# Altium integrated library Linear Technology PMIC-Switching Reg LT1074-LT8705.IntLib: 2252 symbols (part 75 of 124)
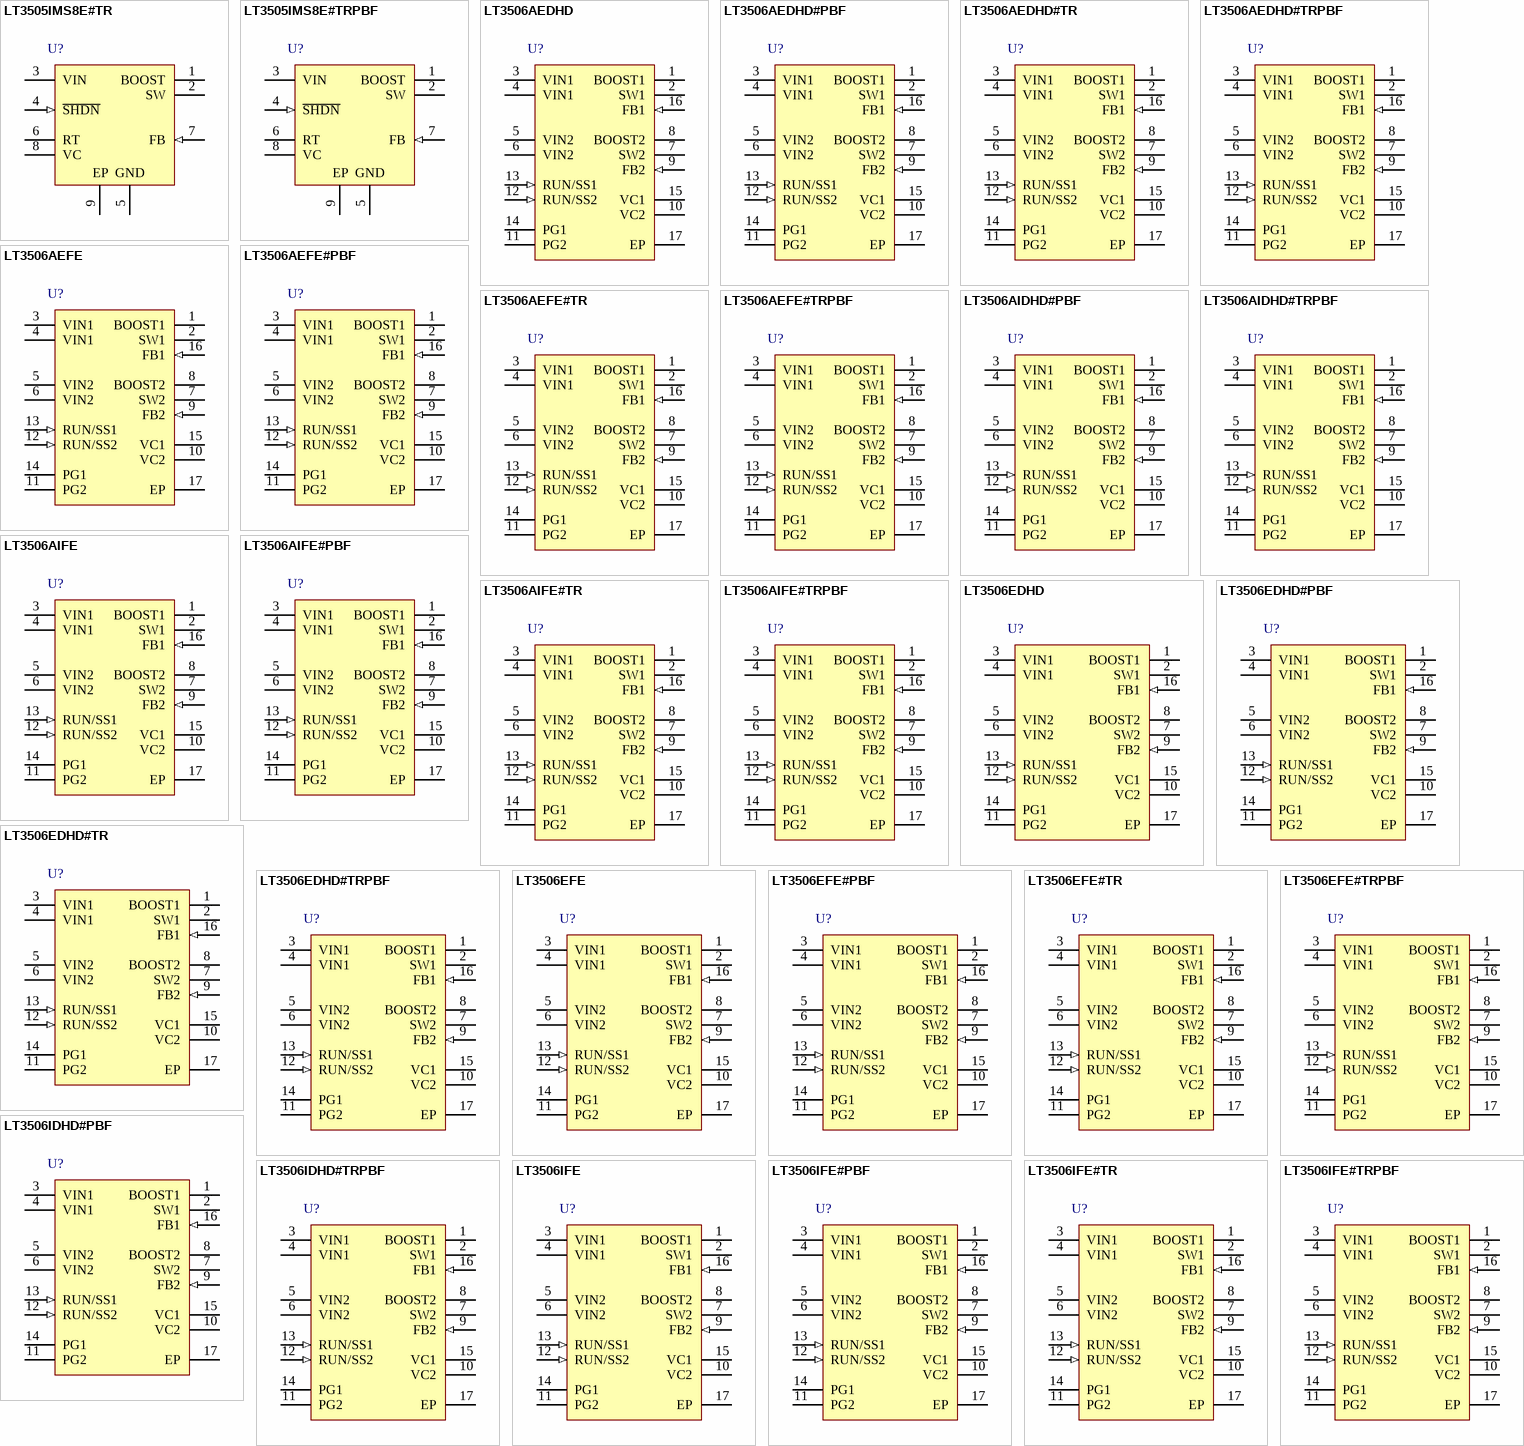
[diagram p145: symbols LT3505IMS8E#TR to LT3506IFE#TRPBF]

## LT3506EDHD#TRPBF
designator U?
Dual Monolithic 1.6 A Step-Down Switching Regulator, 16-pin SON (DHD-16), -40 to 85 degC, Pb-Free, Tape and Reel; Manufacturer: Linear Technology; PartNumber: LT3506EDHD#TRPBF; Number of Outputs: 2; PackageReference: DHD-16; PackageDescription: 16-Pin Plastic DFN, Body 5 x 4 mm, Pitch 0.5 mm; Supplier 1: Digi-Key; Supplier Part Number 1: LT3506EDHD#TRPBF-ND; RoHS: TRUE
footprint LT-DHD-16_V (SON, 16-Leads, Body 5x4mm, Pitch 0.5mm, Thermal Pad 4.34x2.44mm)
pins: 1 BOOST1 "The BOOST pins are used to provide drive voltages, higher than the input voltage, to the internal bipolar NPN power switches. Tie through a diode from VOUT or from VIN.", 2 SW1 (power) "The SW pins are the outputs of the internal power switches. Connect these pins to the inductors, catch diodes and boost capacitors.", 3 VIN1 (power) "The VIN1 pins supply current to the LT3506’s internal regulator and to the internal power switch connected to SW1. These pins must be locally bypassed.", 4 VIN1 (power) "The VIN1 pins supply current to the LT3506’s internal regulator and to the internal power switch connected to SW1. These pins must be locally bypassed.", 5 VIN2 (power) "The VIN2 pins supply current to the internal power switch connected to SW2 and must be locally bypassed. Connect these pins directly to VIN1 unless power for channel 2 is coming from a different source.", 6 VIN2 (power) "The VIN2 pins supply current to the internal power switch connected to SW2 and must be locally bypassed. Connect these pins directly to VIN1 unless power for channel 2 is coming from a different source.", 7 SW2 (power) "The SW pins are the outputs of the internal power switches. Connect these pins to the inductors, catch diodes and boost capacitors.", 8 BOOST2 "The BOOST pins are used to provide drive voltages, higher than the input voltage, to the internal bipolar NPN power switches. Tie through a diode from VOUT or from VIN.", 9 FB2 (in) "The LT3506 regulates each feedback pin to 800mV. Connect the feedback resistor divider taps to these pins.", 10 VC2 "The VC pins are the outputs of the internal error amps. The voltages on these pins control the peak switch currents. These pins are normally used to compensate the control loops, but can also be used to override the loops. (See Datasheet)", 11 PG2 (oc) "The Power Good pins are the open collector outputs of an internal comparator. PG remains low until the FB pin is within 10% of the fi nal regulation voltage. As well as indicating output regulation, the PG pins can be used (See Datasheet)", 12 RUN/SS2 (in) "The RUN/SS pins are used to shut down the individual switching regulators and the internal bias circuits. They also provide a soft-start function. To shut down either regulator, pull the RUN/SS pin to ground with an open (See Datasheet)", 13 RUN/SS1 (in) "The RUN/SS pins are used to shut down the individual switching regulators and the internal bias circuits. They also provide a soft-start function. To shut down either regulator, pull the RUN/SS pin to ground with an open (See Datasheet)", 14 PG1 (oc) "The Power Good pins are the open collector outputs of an internal comparator. PG remains low until the FB pin is within 10% of the fi nal regulation voltage. As well as indicating output regulation, the PG pins can be used (See Datasheet)", 15 VC1 "The VC pins are the outputs of the internal error amps. The voltages on these pins control the peak switch currents. These pins are normally used to compensate the control loops, but can also be used to override the loops. (See Datasheet)", 16 FB1 (in) "The LT3506 regulates each feedback pin to 800mV. Connect the feedback resistor divider taps to these pins.", 17 EP (power) "The Exposed Pad of the package provides both electrical contact to ground and good thermal contact to the printed circuit board. The Exposed Pad must be soldered to the circuit board for proper operation."

## LT3506EFE
designator U?
Dual Monolithic 1.6 A Step-Down Switching Regulator, 16-pin SOP (FE-16-EPV-BA), -40 to 85 degC; Manufacturer: Linear Technology; PartNumber: LT3506EFE; Number of Outputs: 2; PackageReference: FE-16; PackageDescription: 16-Pin Plastic TSSOP, Body 5 x 4.4 mm, Pitch 0.65 mm; RoHS: FALSE
footprint LT-FE-16-EPV-BA_N (SOP, 16-Leads, Body 5x4.4mm, Pitch 0.65mm, Thermal Pad 2.74x2.74mm, IPC Medium Density)
footprint LT-FE-16-EPV-BA_L (SOP, 16-Leads, Body 5x4.4mm, Pitch 0.65mm, Thermal Pad 2.74x2.74mm, IPC High Density)
footprint LT-FE-16-EPV-BA_M (SOP, 16-Leads, Body 5x4.4mm, Pitch 0.65mm, Thermal Pad 2.74x2.74mm, IPC Low Density)
pins: 1 BOOST1 "The BOOST pins are used to provide drive voltages, higher than the input voltage, to the internal bipolar NPN power switches. Tie through a diode from VOUT or from VIN.", 2 SW1 (power) "The SW pins are the outputs of the internal power switches. Connect these pins to the inductors, catch diodes and boost capacitors.", 3 VIN1 (power) "The VIN1 pins supply current to the LT3506’s internal regulator and to the internal power switch connected to SW1. These pins must be locally bypassed.", 4 VIN1 (power) "The VIN1 pins supply current to the LT3506’s internal regulator and to the internal power switch connected to SW1. These pins must be locally bypassed.", 5 VIN2 (power) "The VIN2 pins supply current to the internal power switch connected to SW2 and must be locally bypassed. Connect these pins directly to VIN1 unless power for channel 2 is coming from a different source.", 6 VIN2 (power) "The VIN2 pins supply current to the internal power switch connected to SW2 and must be locally bypassed. Connect these pins directly to VIN1 unless power for channel 2 is coming from a different source.", 7 SW2 (power) "The SW pins are the outputs of the internal power switches. Connect these pins to the inductors, catch diodes and boost capacitors.", 8 BOOST2 "The BOOST pins are used to provide drive voltages, higher than the input voltage, to the internal bipolar NPN power switches. Tie through a diode from VOUT or from VIN.", 9 FB2 (in) "The LT3506 regulates each feedback pin to 800mV. Connect the feedback resistor divider taps to these pins.", 10 VC2 "The VC pins are the outputs of the internal error amps. The voltages on these pins control the peak switch currents. These pins are normally used to compensate the control loops, but can also be used to override the loops. (See Datasheet)", 11 PG2 (oc) "The Power Good pins are the open collector outputs of an internal comparator. PG remains low until the FB pin is within 10% of the fi nal regulation voltage. As well as indicating output regulation, the PG pins can be used (See Datasheet)", 12 RUN/SS2 (in) "The RUN/SS pins are used to shut down the individual switching regulators and the internal bias circuits. They also provide a soft-start function. To shut down either regulator, pull the RUN/SS pin to ground with an open (See Datasheet)", 13 RUN/SS1 (in) "The RUN/SS pins are used to shut down the individual switching regulators and the internal bias circuits. They also provide a soft-start function. To shut down either regulator, pull the RUN/SS pin to ground with an open (See Datasheet)", 14 PG1 (oc) "The Power Good pins are the open collector outputs of an internal comparator. PG remains low until the FB pin is within 10% of the fi nal regulation voltage. As well as indicating output regulation, the PG pins can be used (See Datasheet)", 15 VC1 "The VC pins are the outputs of the internal error amps. The voltages on these pins control the peak switch currents. These pins are normally used to compensate the control loops, but can also be used to override the loops. (See Datasheet)", 16 FB1 (in) "The LT3506 regulates each feedback pin to 800mV. Connect the feedback resistor divider taps to these pins.", 17 EP (power) "The Exposed Pad of the package provides both electrical contact to ground and good thermal contact to the printed circuit board. The Exposed Pad must be soldered to the circuit board for proper operation."

## LT3506EFE#PBF
designator U?
Dual Monolithic 1.6 A Step-Down Switching Regulator, 16-pin SOP (FE-16-EPV-BA), -40 to 85 degC, Pb-Free; Manufacturer: Linear Technology; PartNumber: LT3506EFE#PBF; Number of Outputs: 2; PackageReference: FE-16; PackageDescription: 16-Pin Plastic TSSOP, Body 5 x 4.4 mm, Pitch 0.65 mm; Supplier 1: Digi-Key; Supplier Part Number 1: LT3506EFE#PBF-ND; RoHS: TRUE
footprint LT-FE-16-EPV-BA_N (SOP, 16-Leads, Body 5x4.4mm, Pitch 0.65mm, Thermal Pad 2.74x2.74mm, IPC Medium Density)
footprint LT-FE-16-EPV-BA_L (SOP, 16-Leads, Body 5x4.4mm, Pitch 0.65mm, Thermal Pad 2.74x2.74mm, IPC High Density)
footprint LT-FE-16-EPV-BA_M (SOP, 16-Leads, Body 5x4.4mm, Pitch 0.65mm, Thermal Pad 2.74x2.74mm, IPC Low Density)
pins: 1 BOOST1 "The BOOST pins are used to provide drive voltages, higher than the input voltage, to the internal bipolar NPN power switches. Tie through a diode from VOUT or from VIN.", 2 SW1 (power) "The SW pins are the outputs of the internal power switches. Connect these pins to the inductors, catch diodes and boost capacitors.", 3 VIN1 (power) "The VIN1 pins supply current to the LT3506’s internal regulator and to the internal power switch connected to SW1. These pins must be locally bypassed.", 4 VIN1 (power) "The VIN1 pins supply current to the LT3506’s internal regulator and to the internal power switch connected to SW1. These pins must be locally bypassed.", 5 VIN2 (power) "The VIN2 pins supply current to the internal power switch connected to SW2 and must be locally bypassed. Connect these pins directly to VIN1 unless power for channel 2 is coming from a different source.", 6 VIN2 (power) "The VIN2 pins supply current to the internal power switch connected to SW2 and must be locally bypassed. Connect these pins directly to VIN1 unless power for channel 2 is coming from a different source.", 7 SW2 (power) "The SW pins are the outputs of the internal power switches. Connect these pins to the inductors, catch diodes and boost capacitors.", 8 BOOST2 "The BOOST pins are used to provide drive voltages, higher than the input voltage, to the internal bipolar NPN power switches. Tie through a diode from VOUT or from VIN.", 9 FB2 (in) "The LT3506 regulates each feedback pin to 800mV. Connect the feedback resistor divider taps to these pins.", 10 VC2 "The VC pins are the outputs of the internal error amps. The voltages on these pins control the peak switch currents. These pins are normally used to compensate the control loops, but can also be used to override the loops. (See Datasheet)", 11 PG2 (oc) "The Power Good pins are the open collector outputs of an internal comparator. PG remains low until the FB pin is within 10% of the fi nal regulation voltage. As well as indicating output regulation, the PG pins can be used (See Datasheet)", 12 RUN/SS2 (in) "The RUN/SS pins are used to shut down the individual switching regulators and the internal bias circuits. They also provide a soft-start function. To shut down either regulator, pull the RUN/SS pin to ground with an open (See Datasheet)", 13 RUN/SS1 (in) "The RUN/SS pins are used to shut down the individual switching regulators and the internal bias circuits. They also provide a soft-start function. To shut down either regulator, pull the RUN/SS pin to ground with an open (See Datasheet)", 14 PG1 (oc) "The Power Good pins are the open collector outputs of an internal comparator. PG remains low until the FB pin is within 10% of the fi nal regulation voltage. As well as indicating output regulation, the PG pins can be used (See Datasheet)", 15 VC1 "The VC pins are the outputs of the internal error amps. The voltages on these pins control the peak switch currents. These pins are normally used to compensate the control loops, but can also be used to override the loops. (See Datasheet)", 16 FB1 (in) "The LT3506 regulates each feedback pin to 800mV. Connect the feedback resistor divider taps to these pins.", 17 EP (power) "The Exposed Pad of the package provides both electrical contact to ground and good thermal contact to the printed circuit board. The Exposed Pad must be soldered to the circuit board for proper operation."

## LT3506EFE#TR
designator U?
Dual Monolithic 1.6 A Step-Down Switching Regulator, 16-pin SOP (FE-16-EPV-BA), -40 to 85 degC, Tape and Reel; Manufacturer: Linear Technology; PartNumber: LT3506EFE#TR; Number of Outputs: 2; PackageReference: FE-16; PackageDescription: 16-Pin Plastic TSSOP, Body 5 x 4.4 mm, Pitch 0.65 mm; RoHS: FALSE
footprint LT-FE-16-EPV-BA_N (SOP, 16-Leads, Body 5x4.4mm, Pitch 0.65mm, Thermal Pad 2.74x2.74mm, IPC Medium Density)
footprint LT-FE-16-EPV-BA_L (SOP, 16-Leads, Body 5x4.4mm, Pitch 0.65mm, Thermal Pad 2.74x2.74mm, IPC High Density)
footprint LT-FE-16-EPV-BA_M (SOP, 16-Leads, Body 5x4.4mm, Pitch 0.65mm, Thermal Pad 2.74x2.74mm, IPC Low Density)
pins: 1 BOOST1 "The BOOST pins are used to provide drive voltages, higher than the input voltage, to the internal bipolar NPN power switches. Tie through a diode from VOUT or from VIN.", 2 SW1 (power) "The SW pins are the outputs of the internal power switches. Connect these pins to the inductors, catch diodes and boost capacitors.", 3 VIN1 (power) "The VIN1 pins supply current to the LT3506’s internal regulator and to the internal power switch connected to SW1. These pins must be locally bypassed.", 4 VIN1 (power) "The VIN1 pins supply current to the LT3506’s internal regulator and to the internal power switch connected to SW1. These pins must be locally bypassed.", 5 VIN2 (power) "The VIN2 pins supply current to the internal power switch connected to SW2 and must be locally bypassed. Connect these pins directly to VIN1 unless power for channel 2 is coming from a different source.", 6 VIN2 (power) "The VIN2 pins supply current to the internal power switch connected to SW2 and must be locally bypassed. Connect these pins directly to VIN1 unless power for channel 2 is coming from a different source.", 7 SW2 (power) "The SW pins are the outputs of the internal power switches. Connect these pins to the inductors, catch diodes and boost capacitors.", 8 BOOST2 "The BOOST pins are used to provide drive voltages, higher than the input voltage, to the internal bipolar NPN power switches. Tie through a diode from VOUT or from VIN.", 9 FB2 (in) "The LT3506 regulates each feedback pin to 800mV. Connect the feedback resistor divider taps to these pins.", 10 VC2 "The VC pins are the outputs of the internal error amps. The voltages on these pins control the peak switch currents. These pins are normally used to compensate the control loops, but can also be used to override the loops. (See Datasheet)", 11 PG2 (oc) "The Power Good pins are the open collector outputs of an internal comparator. PG remains low until the FB pin is within 10% of the fi nal regulation voltage. As well as indicating output regulation, the PG pins can be used (See Datasheet)", 12 RUN/SS2 (in) "The RUN/SS pins are used to shut down the individual switching regulators and the internal bias circuits. They also provide a soft-start function. To shut down either regulator, pull the RUN/SS pin to ground with an open (See Datasheet)", 13 RUN/SS1 (in) "The RUN/SS pins are used to shut down the individual switching regulators and the internal bias circuits. They also provide a soft-start function. To shut down either regulator, pull the RUN/SS pin to ground with an open (See Datasheet)", 14 PG1 (oc) "The Power Good pins are the open collector outputs of an internal comparator. PG remains low until the FB pin is within 10% of the fi nal regulation voltage. As well as indicating output regulation, the PG pins can be used (See Datasheet)", 15 VC1 "The VC pins are the outputs of the internal error amps. The voltages on these pins control the peak switch currents. These pins are normally used to compensate the control loops, but can also be used to override the loops. (See Datasheet)", 16 FB1 (in) "The LT3506 regulates each feedback pin to 800mV. Connect the feedback resistor divider taps to these pins.", 17 EP (power) "The Exposed Pad of the package provides both electrical contact to ground and good thermal contact to the printed circuit board. The Exposed Pad must be soldered to the circuit board for proper operation."

## LT3506EFE#TRPBF
designator U?
Dual Monolithic 1.6 A Step-Down Switching Regulator, 16-pin SOP (FE-16-EPV-BA), -40 to 85 degC, Pb-Free, Tape and Reel; Manufacturer: Linear Technology; PartNumber: LT3506EFE#TRPBF; Number of Outputs: 2; PackageReference: FE-16; PackageDescription: 16-Pin Plastic TSSOP, Body 5 x 4.4 mm, Pitch 0.65 mm; Supplier 1: Digi-Key; Supplier Part Number 1: LT3506EFE#TRPBF-ND; RoHS: TRUE
footprint LT-FE-16-EPV-BA_N (SOP, 16-Leads, Body 5x4.4mm, Pitch 0.65mm, Thermal Pad 2.74x2.74mm, IPC Medium Density)
footprint LT-FE-16-EPV-BA_L (SOP, 16-Leads, Body 5x4.4mm, Pitch 0.65mm, Thermal Pad 2.74x2.74mm, IPC High Density)
footprint LT-FE-16-EPV-BA_M (SOP, 16-Leads, Body 5x4.4mm, Pitch 0.65mm, Thermal Pad 2.74x2.74mm, IPC Low Density)
pins: 1 BOOST1 "The BOOST pins are used to provide drive voltages, higher than the input voltage, to the internal bipolar NPN power switches. Tie through a diode from VOUT or from VIN.", 2 SW1 (power) "The SW pins are the outputs of the internal power switches. Connect these pins to the inductors, catch diodes and boost capacitors.", 3 VIN1 (power) "The VIN1 pins supply current to the LT3506’s internal regulator and to the internal power switch connected to SW1. These pins must be locally bypassed.", 4 VIN1 (power) "The VIN1 pins supply current to the LT3506’s internal regulator and to the internal power switch connected to SW1. These pins must be locally bypassed.", 5 VIN2 (power) "The VIN2 pins supply current to the internal power switch connected to SW2 and must be locally bypassed. Connect these pins directly to VIN1 unless power for channel 2 is coming from a different source.", 6 VIN2 (power) "The VIN2 pins supply current to the internal power switch connected to SW2 and must be locally bypassed. Connect these pins directly to VIN1 unless power for channel 2 is coming from a different source.", 7 SW2 (power) "The SW pins are the outputs of the internal power switches. Connect these pins to the inductors, catch diodes and boost capacitors.", 8 BOOST2 "The BOOST pins are used to provide drive voltages, higher than the input voltage, to the internal bipolar NPN power switches. Tie through a diode from VOUT or from VIN.", 9 FB2 (in) "The LT3506 regulates each feedback pin to 800mV. Connect the feedback resistor divider taps to these pins.", 10 VC2 "The VC pins are the outputs of the internal error amps. The voltages on these pins control the peak switch currents. These pins are normally used to compensate the control loops, but can also be used to override the loops. (See Datasheet)", 11 PG2 (oc) "The Power Good pins are the open collector outputs of an internal comparator. PG remains low until the FB pin is within 10% of the fi nal regulation voltage. As well as indicating output regulation, the PG pins can be used (See Datasheet)", 12 RUN/SS2 (in) "The RUN/SS pins are used to shut down the individual switching regulators and the internal bias circuits. They also provide a soft-start function. To shut down either regulator, pull the RUN/SS pin to ground with an open (See Datasheet)", 13 RUN/SS1 (in) "The RUN/SS pins are used to shut down the individual switching regulators and the internal bias circuits. They also provide a soft-start function. To shut down either regulator, pull the RUN/SS pin to ground with an open (See Datasheet)", 14 PG1 (oc) "The Power Good pins are the open collector outputs of an internal comparator. PG remains low until the FB pin is within 10% of the fi nal regulation voltage. As well as indicating output regulation, the PG pins can be used (See Datasheet)", 15 VC1 "The VC pins are the outputs of the internal error amps. The voltages on these pins control the peak switch currents. These pins are normally used to compensate the control loops, but can also be used to override the loops. (See Datasheet)", 16 FB1 (in) "The LT3506 regulates each feedback pin to 800mV. Connect the feedback resistor divider taps to these pins.", 17 EP (power) "The Exposed Pad of the package provides both electrical contact to ground and good thermal contact to the printed circuit board. The Exposed Pad must be soldered to the circuit board for proper operation."

## LT3506IDHD#PBF
designator U?
Dual Monolithic 1.6 A Step-Down Switching Regulator, 16-pin SON (DHD-16), -40 to 125 degC, Pb-Free; Manufacturer: Linear Technology; PartNumber: LT3506IDHD#PBF; Number of Outputs: 2; PackageReference: DHD-16; PackageDescription: 16-Pin Plastic DFN, Body 5 x 4 mm, Pitch 0.5 mm; Supplier 1: Digi-Key; Supplier Part Number 1: LT3506IDHD#PBF-ND; RoHS: TRUE
footprint LT-DHD-16_V (SON, 16-Leads, Body 5x4mm, Pitch 0.5mm, Thermal Pad 4.34x2.44mm)
pins: 1 BOOST1 "The BOOST pins are used to provide drive voltages, higher than the input voltage, to the internal bipolar NPN power switches. Tie through a diode from VOUT or from VIN.", 2 SW1 (power) "The SW pins are the outputs of the internal power switches. Connect these pins to the inductors, catch diodes and boost capacitors.", 3 VIN1 (power) "The VIN1 pins supply current to the LT3506’s internal regulator and to the internal power switch connected to SW1. These pins must be locally bypassed.", 4 VIN1 (power) "The VIN1 pins supply current to the LT3506’s internal regulator and to the internal power switch connected to SW1. These pins must be locally bypassed.", 5 VIN2 (power) "The VIN2 pins supply current to the internal power switch connected to SW2 and must be locally bypassed. Connect these pins directly to VIN1 unless power for channel 2 is coming from a different source.", 6 VIN2 (power) "The VIN2 pins supply current to the internal power switch connected to SW2 and must be locally bypassed. Connect these pins directly to VIN1 unless power for channel 2 is coming from a different source.", 7 SW2 (power) "The SW pins are the outputs of the internal power switches. Connect these pins to the inductors, catch diodes and boost capacitors.", 8 BOOST2 "The BOOST pins are used to provide drive voltages, higher than the input voltage, to the internal bipolar NPN power switches. Tie through a diode from VOUT or from VIN.", 9 FB2 (in) "The LT3506 regulates each feedback pin to 800mV. Connect the feedback resistor divider taps to these pins.", 10 VC2 "The VC pins are the outputs of the internal error amps. The voltages on these pins control the peak switch currents. These pins are normally used to compensate the control loops, but can also be used to override the loops. (See Datasheet)", 11 PG2 (oc) "The Power Good pins are the open collector outputs of an internal comparator. PG remains low until the FB pin is within 10% of the fi nal regulation voltage. As well as indicating output regulation, the PG pins can be used (See Datasheet)", 12 RUN/SS2 (in) "The RUN/SS pins are used to shut down the individual switching regulators and the internal bias circuits. They also provide a soft-start function. To shut down either regulator, pull the RUN/SS pin to ground with an open (See Datasheet)", 13 RUN/SS1 (in) "The RUN/SS pins are used to shut down the individual switching regulators and the internal bias circuits. They also provide a soft-start function. To shut down either regulator, pull the RUN/SS pin to ground with an open (See Datasheet)", 14 PG1 (oc) "The Power Good pins are the open collector outputs of an internal comparator. PG remains low until the FB pin is within 10% of the fi nal regulation voltage. As well as indicating output regulation, the PG pins can be used (See Datasheet)", 15 VC1 "The VC pins are the outputs of the internal error amps. The voltages on these pins control the peak switch currents. These pins are normally used to compensate the control loops, but can also be used to override the loops. (See Datasheet)", 16 FB1 (in) "The LT3506 regulates each feedback pin to 800mV. Connect the feedback resistor divider taps to these pins.", 17 EP (power) "The Exposed Pad of the package provides both electrical contact to ground and good thermal contact to the printed circuit board. The Exposed Pad must be soldered to the circuit board for proper operation."

## LT3506IDHD#TRPBF
designator U?
Dual Monolithic 1.6 A Step-Down Switching Regulator, 16-pin SON (DHD-16), -40 to 125 degC, Pb-Free, Tape and Reel; Manufacturer: Linear Technology; PartNumber: LT3506IDHD#TRPBF; Number of Outputs: 2; PackageReference: DHD-16; PackageDescription: 16-Pin Plastic DFN, Body 5 x 4 mm, Pitch 0.5 mm; Supplier 1: Digi-Key; Supplier Part Number 1: LT3506IDHD#TRPBF-ND; RoHS: TRUE
footprint LT-DHD-16_V (SON, 16-Leads, Body 5x4mm, Pitch 0.5mm, Thermal Pad 4.34x2.44mm)
pins: 1 BOOST1 "The BOOST pins are used to provide drive voltages, higher than the input voltage, to the internal bipolar NPN power switches. Tie through a diode from VOUT or from VIN.", 2 SW1 (power) "The SW pins are the outputs of the internal power switches. Connect these pins to the inductors, catch diodes and boost capacitors.", 3 VIN1 (power) "The VIN1 pins supply current to the LT3506’s internal regulator and to the internal power switch connected to SW1. These pins must be locally bypassed.", 4 VIN1 (power) "The VIN1 pins supply current to the LT3506’s internal regulator and to the internal power switch connected to SW1. These pins must be locally bypassed.", 5 VIN2 (power) "The VIN2 pins supply current to the internal power switch connected to SW2 and must be locally bypassed. Connect these pins directly to VIN1 unless power for channel 2 is coming from a different source.", 6 VIN2 (power) "The VIN2 pins supply current to the internal power switch connected to SW2 and must be locally bypassed. Connect these pins directly to VIN1 unless power for channel 2 is coming from a different source.", 7 SW2 (power) "The SW pins are the outputs of the internal power switches. Connect these pins to the inductors, catch diodes and boost capacitors.", 8 BOOST2 "The BOOST pins are used to provide drive voltages, higher than the input voltage, to the internal bipolar NPN power switches. Tie through a diode from VOUT or from VIN.", 9 FB2 (in) "The LT3506 regulates each feedback pin to 800mV. Connect the feedback resistor divider taps to these pins.", 10 VC2 "The VC pins are the outputs of the internal error amps. The voltages on these pins control the peak switch currents. These pins are normally used to compensate the control loops, but can also be used to override the loops. (See Datasheet)", 11 PG2 (oc) "The Power Good pins are the open collector outputs of an internal comparator. PG remains low until the FB pin is within 10% of the fi nal regulation voltage. As well as indicating output regulation, the PG pins can be used (See Datasheet)", 12 RUN/SS2 (in) "The RUN/SS pins are used to shut down the individual switching regulators and the internal bias circuits. They also provide a soft-start function. To shut down either regulator, pull the RUN/SS pin to ground with an open (See Datasheet)", 13 RUN/SS1 (in) "The RUN/SS pins are used to shut down the individual switching regulators and the internal bias circuits. They also provide a soft-start function. To shut down either regulator, pull the RUN/SS pin to ground with an open (See Datasheet)", 14 PG1 (oc) "The Power Good pins are the open collector outputs of an internal comparator. PG remains low until the FB pin is within 10% of the fi nal regulation voltage. As well as indicating output regulation, the PG pins can be used (See Datasheet)", 15 VC1 "The VC pins are the outputs of the internal error amps. The voltages on these pins control the peak switch currents. These pins are normally used to compensate the control loops, but can also be used to override the loops. (See Datasheet)", 16 FB1 (in) "The LT3506 regulates each feedback pin to 800mV. Connect the feedback resistor divider taps to these pins.", 17 EP (power) "The Exposed Pad of the package provides both electrical contact to ground and good thermal contact to the printed circuit board. The Exposed Pad must be soldered to the circuit board for proper operation."

## LT3506IFE
designator U?
Dual Monolithic 1.6 A Step-Down Switching Regulator, 16-pin SOP (FE-16-EPV-BA), -40 to 125 degC; Manufacturer: Linear Technology; PartNumber: LT3506IFE; Number of Outputs: 2; PackageReference: FE-16; PackageDescription: 16-Pin Plastic TSSOP, Body 5 x 4.4 mm, Pitch 0.65 mm; RoHS: FALSE
footprint LT-FE-16-EPV-BA_N (SOP, 16-Leads, Body 5x4.4mm, Pitch 0.65mm, Thermal Pad 2.74x2.74mm, IPC Medium Density)
footprint LT-FE-16-EPV-BA_L (SOP, 16-Leads, Body 5x4.4mm, Pitch 0.65mm, Thermal Pad 2.74x2.74mm, IPC High Density)
footprint LT-FE-16-EPV-BA_M (SOP, 16-Leads, Body 5x4.4mm, Pitch 0.65mm, Thermal Pad 2.74x2.74mm, IPC Low Density)
pins: 1 BOOST1 "The BOOST pins are used to provide drive voltages, higher than the input voltage, to the internal bipolar NPN power switches. Tie through a diode from VOUT or from VIN.", 2 SW1 (power) "The SW pins are the outputs of the internal power switches. Connect these pins to the inductors, catch diodes and boost capacitors.", 3 VIN1 (power) "The VIN1 pins supply current to the LT3506’s internal regulator and to the internal power switch connected to SW1. These pins must be locally bypassed.", 4 VIN1 (power) "The VIN1 pins supply current to the LT3506’s internal regulator and to the internal power switch connected to SW1. These pins must be locally bypassed.", 5 VIN2 (power) "The VIN2 pins supply current to the internal power switch connected to SW2 and must be locally bypassed. Connect these pins directly to VIN1 unless power for channel 2 is coming from a different source.", 6 VIN2 (power) "The VIN2 pins supply current to the internal power switch connected to SW2 and must be locally bypassed. Connect these pins directly to VIN1 unless power for channel 2 is coming from a different source.", 7 SW2 (power) "The SW pins are the outputs of the internal power switches. Connect these pins to the inductors, catch diodes and boost capacitors.", 8 BOOST2 "The BOOST pins are used to provide drive voltages, higher than the input voltage, to the internal bipolar NPN power switches. Tie through a diode from VOUT or from VIN.", 9 FB2 (in) "The LT3506 regulates each feedback pin to 800mV. Connect the feedback resistor divider taps to these pins.", 10 VC2 "The VC pins are the outputs of the internal error amps. The voltages on these pins control the peak switch currents. These pins are normally used to compensate the control loops, but can also be used to override the loops. (See Datasheet)", 11 PG2 (oc) "The Power Good pins are the open collector outputs of an internal comparator. PG remains low until the FB pin is within 10% of the fi nal regulation voltage. As well as indicating output regulation, the PG pins can be used (See Datasheet)", 12 RUN/SS2 (in) "The RUN/SS pins are used to shut down the individual switching regulators and the internal bias circuits. They also provide a soft-start function. To shut down either regulator, pull the RUN/SS pin to ground with an open (See Datasheet)", 13 RUN/SS1 (in) "The RUN/SS pins are used to shut down the individual switching regulators and the internal bias circuits. They also provide a soft-start function. To shut down either regulator, pull the RUN/SS pin to ground with an open (See Datasheet)", 14 PG1 (oc) "The Power Good pins are the open collector outputs of an internal comparator. PG remains low until the FB pin is within 10% of the fi nal regulation voltage. As well as indicating output regulation, the PG pins can be used (See Datasheet)", 15 VC1 "The VC pins are the outputs of the internal error amps. The voltages on these pins control the peak switch currents. These pins are normally used to compensate the control loops, but can also be used to override the loops. (See Datasheet)", 16 FB1 (in) "The LT3506 regulates each feedback pin to 800mV. Connect the feedback resistor divider taps to these pins.", 17 EP (power) "The Exposed Pad of the package provides both electrical contact to ground and good thermal contact to the printed circuit board. The Exposed Pad must be soldered to the circuit board for proper operation."

## LT3506IFE#PBF
designator U?
Dual Monolithic 1.6 A Step-Down Switching Regulator, 16-pin SOP (FE-16-EPV-BA), -40 to 125 degC, Pb-Free; Manufacturer: Linear Technology; PartNumber: LT3506IFE#PBF; Number of Outputs: 2; PackageReference: FE-16; PackageDescription: 16-Pin Plastic TSSOP, Body 5 x 4.4 mm, Pitch 0.65 mm; Supplier 1: Digi-Key; Supplier Part Number 1: LT3506IFE#PBF-ND; RoHS: TRUE
footprint LT-FE-16-EPV-BA_N (SOP, 16-Leads, Body 5x4.4mm, Pitch 0.65mm, Thermal Pad 2.74x2.74mm, IPC Medium Density)
footprint LT-FE-16-EPV-BA_L (SOP, 16-Leads, Body 5x4.4mm, Pitch 0.65mm, Thermal Pad 2.74x2.74mm, IPC High Density)
footprint LT-FE-16-EPV-BA_M (SOP, 16-Leads, Body 5x4.4mm, Pitch 0.65mm, Thermal Pad 2.74x2.74mm, IPC Low Density)
pins: 1 BOOST1 "The BOOST pins are used to provide drive voltages, higher than the input voltage, to the internal bipolar NPN power switches. Tie through a diode from VOUT or from VIN.", 2 SW1 (power) "The SW pins are the outputs of the internal power switches. Connect these pins to the inductors, catch diodes and boost capacitors.", 3 VIN1 (power) "The VIN1 pins supply current to the LT3506’s internal regulator and to the internal power switch connected to SW1. These pins must be locally bypassed.", 4 VIN1 (power) "The VIN1 pins supply current to the LT3506’s internal regulator and to the internal power switch connected to SW1. These pins must be locally bypassed.", 5 VIN2 (power) "The VIN2 pins supply current to the internal power switch connected to SW2 and must be locally bypassed. Connect these pins directly to VIN1 unless power for channel 2 is coming from a different source.", 6 VIN2 (power) "The VIN2 pins supply current to the internal power switch connected to SW2 and must be locally bypassed. Connect these pins directly to VIN1 unless power for channel 2 is coming from a different source.", 7 SW2 (power) "The SW pins are the outputs of the internal power switches. Connect these pins to the inductors, catch diodes and boost capacitors.", 8 BOOST2 "The BOOST pins are used to provide drive voltages, higher than the input voltage, to the internal bipolar NPN power switches. Tie through a diode from VOUT or from VIN.", 9 FB2 (in) "The LT3506 regulates each feedback pin to 800mV. Connect the feedback resistor divider taps to these pins.", 10 VC2 "The VC pins are the outputs of the internal error amps. The voltages on these pins control the peak switch currents. These pins are normally used to compensate the control loops, but can also be used to override the loops. (See Datasheet)", 11 PG2 (oc) "The Power Good pins are the open collector outputs of an internal comparator. PG remains low until the FB pin is within 10% of the fi nal regulation voltage. As well as indicating output regulation, the PG pins can be used (See Datasheet)", 12 RUN/SS2 (in) "The RUN/SS pins are used to shut down the individual switching regulators and the internal bias circuits. They also provide a soft-start function. To shut down either regulator, pull the RUN/SS pin to ground with an open (See Datasheet)", 13 RUN/SS1 (in) "The RUN/SS pins are used to shut down the individual switching regulators and the internal bias circuits. They also provide a soft-start function. To shut down either regulator, pull the RUN/SS pin to ground with an open (See Datasheet)", 14 PG1 (oc) "The Power Good pins are the open collector outputs of an internal comparator. PG remains low until the FB pin is within 10% of the fi nal regulation voltage. As well as indicating output regulation, the PG pins can be used (See Datasheet)", 15 VC1 "The VC pins are the outputs of the internal error amps. The voltages on these pins control the peak switch currents. These pins are normally used to compensate the control loops, but can also be used to override the loops. (See Datasheet)", 16 FB1 (in) "The LT3506 regulates each feedback pin to 800mV. Connect the feedback resistor divider taps to these pins.", 17 EP (power) "The Exposed Pad of the package provides both electrical contact to ground and good thermal contact to the printed circuit board. The Exposed Pad must be soldered to the circuit board for proper operation."

## LT3506IFE#TR
designator U?
Dual Monolithic 1.6 A Step-Down Switching Regulator, 16-pin SOP (FE-16-EPV-BA), -40 to 125 degC, Tape and Reel; Manufacturer: Linear Technology; PartNumber: LT3506IFE#TR; Number of Outputs: 2; PackageReference: FE-16; PackageDescription: 16-Pin Plastic TSSOP, Body 5 x 4.4 mm, Pitch 0.65 mm; RoHS: FALSE
footprint LT-FE-16-EPV-BA_N (SOP, 16-Leads, Body 5x4.4mm, Pitch 0.65mm, Thermal Pad 2.74x2.74mm, IPC Medium Density)
footprint LT-FE-16-EPV-BA_L (SOP, 16-Leads, Body 5x4.4mm, Pitch 0.65mm, Thermal Pad 2.74x2.74mm, IPC High Density)
footprint LT-FE-16-EPV-BA_M (SOP, 16-Leads, Body 5x4.4mm, Pitch 0.65mm, Thermal Pad 2.74x2.74mm, IPC Low Density)
pins: 1 BOOST1 "The BOOST pins are used to provide drive voltages, higher than the input voltage, to the internal bipolar NPN power switches. Tie through a diode from VOUT or from VIN.", 2 SW1 (power) "The SW pins are the outputs of the internal power switches. Connect these pins to the inductors, catch diodes and boost capacitors.", 3 VIN1 (power) "The VIN1 pins supply current to the LT3506’s internal regulator and to the internal power switch connected to SW1. These pins must be locally bypassed.", 4 VIN1 (power) "The VIN1 pins supply current to the LT3506’s internal regulator and to the internal power switch connected to SW1. These pins must be locally bypassed.", 5 VIN2 (power) "The VIN2 pins supply current to the internal power switch connected to SW2 and must be locally bypassed. Connect these pins directly to VIN1 unless power for channel 2 is coming from a different source.", 6 VIN2 (power) "The VIN2 pins supply current to the internal power switch connected to SW2 and must be locally bypassed. Connect these pins directly to VIN1 unless power for channel 2 is coming from a different source.", 7 SW2 (power) "The SW pins are the outputs of the internal power switches. Connect these pins to the inductors, catch diodes and boost capacitors.", 8 BOOST2 "The BOOST pins are used to provide drive voltages, higher than the input voltage, to the internal bipolar NPN power switches. Tie through a diode from VOUT or from VIN.", 9 FB2 (in) "The LT3506 regulates each feedback pin to 800mV. Connect the feedback resistor divider taps to these pins.", 10 VC2 "The VC pins are the outputs of the internal error amps. The voltages on these pins control the peak switch currents. These pins are normally used to compensate the control loops, but can also be used to override the loops. (See Datasheet)", 11 PG2 (oc) "The Power Good pins are the open collector outputs of an internal comparator. PG remains low until the FB pin is within 10% of the fi nal regulation voltage. As well as indicating output regulation, the PG pins can be used (See Datasheet)", 12 RUN/SS2 (in) "The RUN/SS pins are used to shut down the individual switching regulators and the internal bias circuits. They also provide a soft-start function. To shut down either regulator, pull the RUN/SS pin to ground with an open (See Datasheet)", 13 RUN/SS1 (in) "The RUN/SS pins are used to shut down the individual switching regulators and the internal bias circuits. They also provide a soft-start function. To shut down either regulator, pull the RUN/SS pin to ground with an open (See Datasheet)", 14 PG1 (oc) "The Power Good pins are the open collector outputs of an internal comparator. PG remains low until the FB pin is within 10% of the fi nal regulation voltage. As well as indicating output regulation, the PG pins can be used (See Datasheet)", 15 VC1 "The VC pins are the outputs of the internal error amps. The voltages on these pins control the peak switch currents. These pins are normally used to compensate the control loops, but can also be used to override the loops. (See Datasheet)", 16 FB1 (in) "The LT3506 regulates each feedback pin to 800mV. Connect the feedback resistor divider taps to these pins.", 17 EP (power) "The Exposed Pad of the package provides both electrical contact to ground and good thermal contact to the printed circuit board. The Exposed Pad must be soldered to the circuit board for proper operation."

## LT3506IFE#TRPBF
designator U?
Dual Monolithic 1.6 A Step-Down Switching Regulator, 16-pin SOP (FE-16-EPV-BA), -40 to 125 degC, Pb-Free, Tape and Reel; Manufacturer: Linear Technology; PartNumber: LT3506IFE#TRPBF; Number of Outputs: 2; PackageReference: FE-16; PackageDescription: 16-Pin Plastic TSSOP, Body 5 x 4.4 mm, Pitch 0.65 mm; Supplier 1: Digi-Key; Supplier Part Number 1: LT3506IFE#TRPBF-ND; RoHS: TRUE
footprint LT-FE-16-EPV-BA_N (SOP, 16-Leads, Body 5x4.4mm, Pitch 0.65mm, Thermal Pad 2.74x2.74mm, IPC Medium Density)
footprint LT-FE-16-EPV-BA_L (SOP, 16-Leads, Body 5x4.4mm, Pitch 0.65mm, Thermal Pad 2.74x2.74mm, IPC High Density)
footprint LT-FE-16-EPV-BA_M (SOP, 16-Leads, Body 5x4.4mm, Pitch 0.65mm, Thermal Pad 2.74x2.74mm, IPC Low Density)
pins: 1 BOOST1 "The BOOST pins are used to provide drive voltages, higher than the input voltage, to the internal bipolar NPN power switches. Tie through a diode from VOUT or from VIN.", 2 SW1 (power) "The SW pins are the outputs of the internal power switches. Connect these pins to the inductors, catch diodes and boost capacitors.", 3 VIN1 (power) "The VIN1 pins supply current to the LT3506’s internal regulator and to the internal power switch connected to SW1. These pins must be locally bypassed.", 4 VIN1 (power) "The VIN1 pins supply current to the LT3506’s internal regulator and to the internal power switch connected to SW1. These pins must be locally bypassed.", 5 VIN2 (power) "The VIN2 pins supply current to the internal power switch connected to SW2 and must be locally bypassed. Connect these pins directly to VIN1 unless power for channel 2 is coming from a different source.", 6 VIN2 (power) "The VIN2 pins supply current to the internal power switch connected to SW2 and must be locally bypassed. Connect these pins directly to VIN1 unless power for channel 2 is coming from a different source.", 7 SW2 (power) "The SW pins are the outputs of the internal power switches. Connect these pins to the inductors, catch diodes and boost capacitors.", 8 BOOST2 "The BOOST pins are used to provide drive voltages, higher than the input voltage, to the internal bipolar NPN power switches. Tie through a diode from VOUT or from VIN.", 9 FB2 (in) "The LT3506 regulates each feedback pin to 800mV. Connect the feedback resistor divider taps to these pins.", 10 VC2 "The VC pins are the outputs of the internal error amps. The voltages on these pins control the peak switch currents. These pins are normally used to compensate the control loops, but can also be used to override the loops. (See Datasheet)", 11 PG2 (oc) "The Power Good pins are the open collector outputs of an internal comparator. PG remains low until the FB pin is within 10% of the fi nal regulation voltage. As well as indicating output regulation, the PG pins can be used (See Datasheet)", 12 RUN/SS2 (in) "The RUN/SS pins are used to shut down the individual switching regulators and the internal bias circuits. They also provide a soft-start function. To shut down either regulator, pull the RUN/SS pin to ground with an open (See Datasheet)", 13 RUN/SS1 (in) "The RUN/SS pins are used to shut down the individual switching regulators and the internal bias circuits. They also provide a soft-start function. To shut down either regulator, pull the RUN/SS pin to ground with an open (See Datasheet)", 14 PG1 (oc) "The Power Good pins are the open collector outputs of an internal comparator. PG remains low until the FB pin is within 10% of the fi nal regulation voltage. As well as indicating output regulation, the PG pins can be used (See Datasheet)", 15 VC1 "The VC pins are the outputs of the internal error amps. The voltages on these pins control the peak switch currents. These pins are normally used to compensate the control loops, but can also be used to override the loops. (See Datasheet)", 16 FB1 (in) "The LT3506 regulates each feedback pin to 800mV. Connect the feedback resistor divider taps to these pins.", 17 EP (power) "The Exposed Pad of the package provides both electrical contact to ground and good thermal contact to the printed circuit board. The Exposed Pad must be soldered to the circuit board for proper operation."

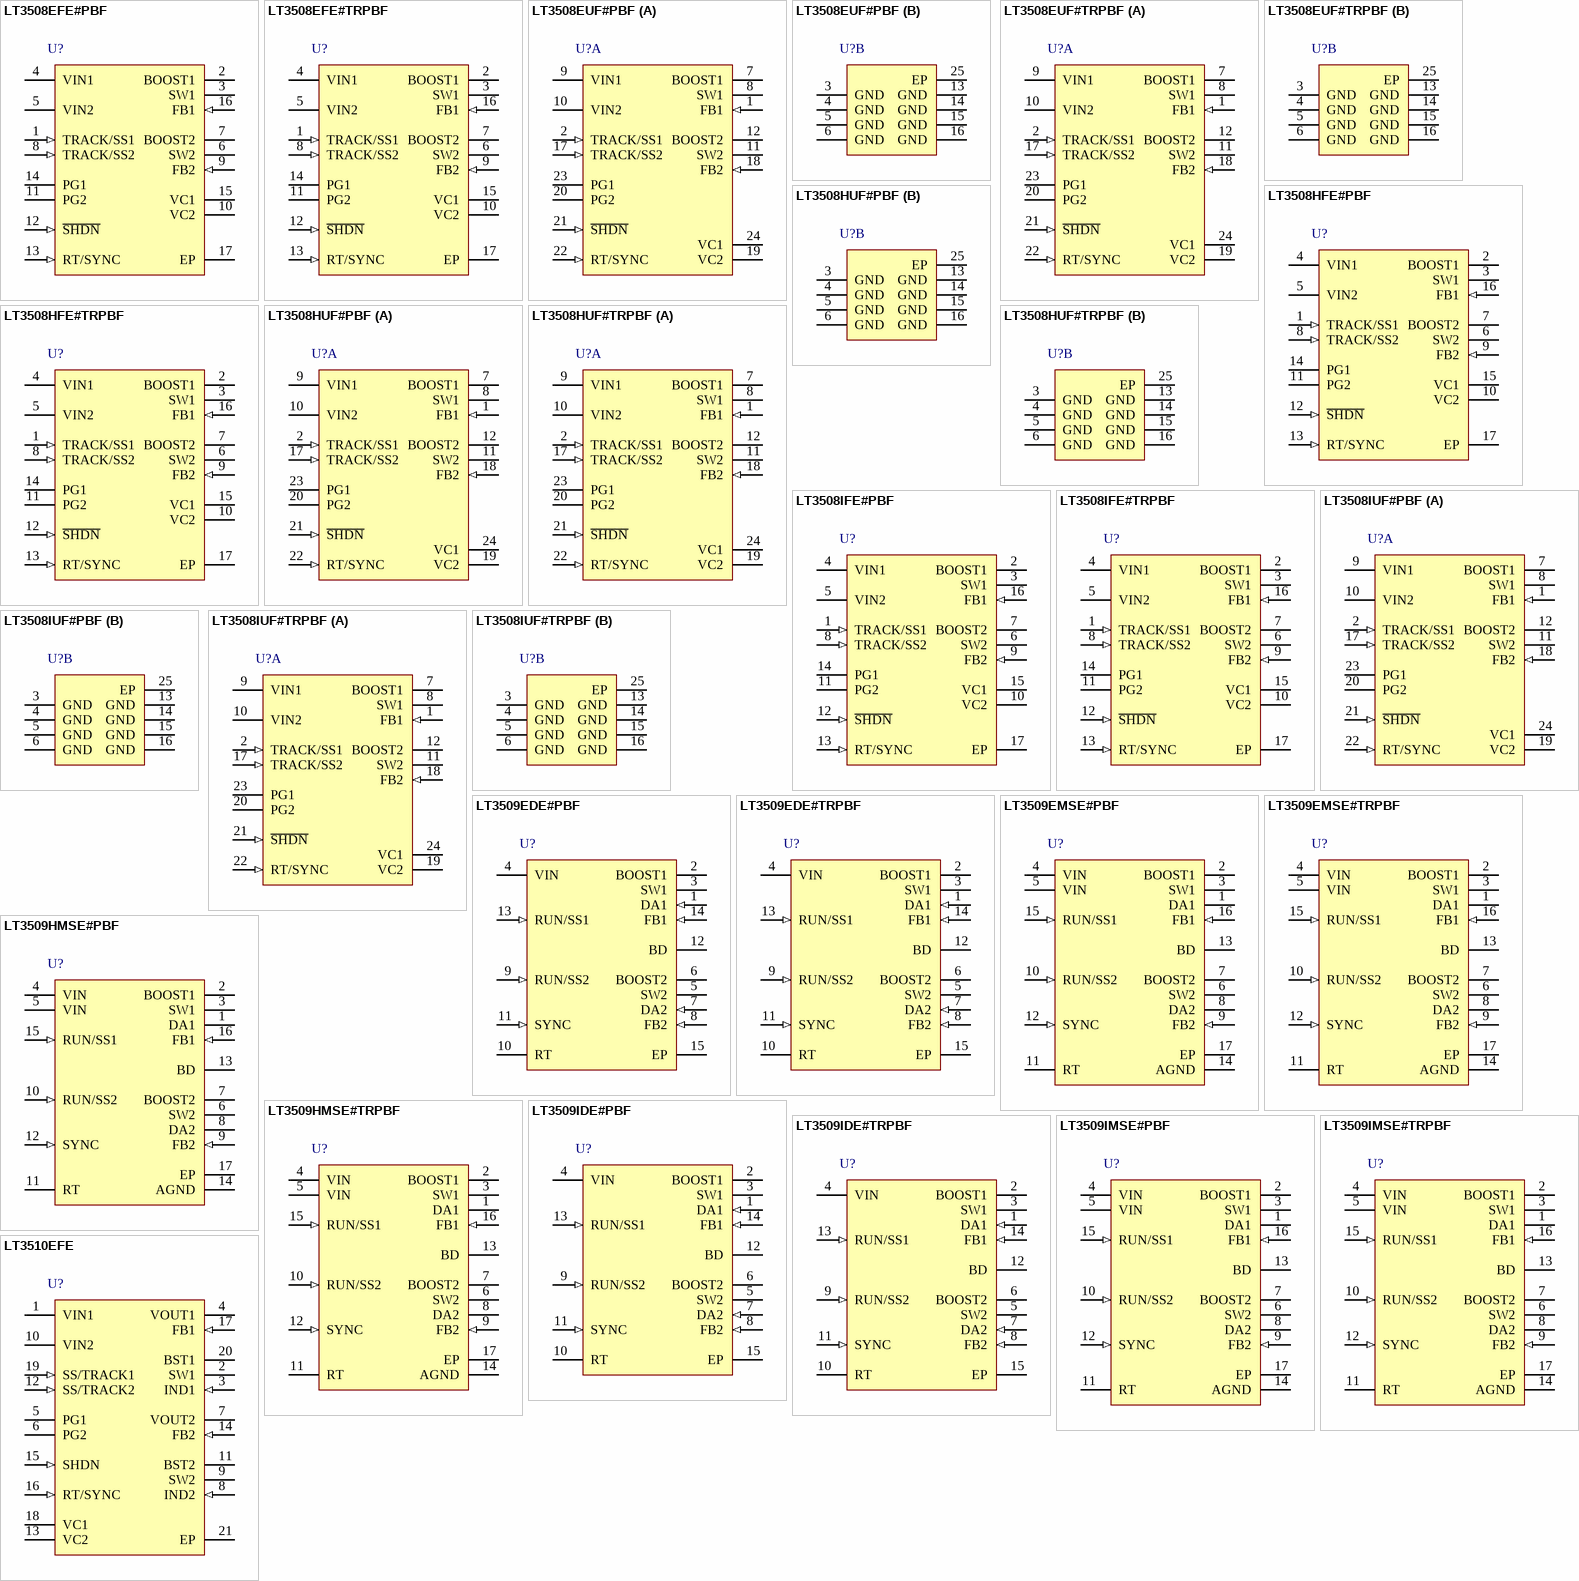
[diagram p46: symbols LT3508EFE#PBF to LT3510EFE]

## LT3508EFE#PBF
designator U?
Dual Monolithic 1.4 A Step-Down Switching Regulator, 16-pin SOP (FE-16-EPV-BA), -40 to 125 degC, Pb-Free; Manufacturer: Linear Technology; PartNumber: LT3508EFE#PBF; Number of Outputs: 2; PackageReference: FE-16; PackageDescription: 16-Pin Plastic TSSOP, Body 5 x 4.4 mm, Pitch 0.65 mm; Supplier 1: Digi-Key; Supplier Part Number 1: LT3508EFE#PBF-ND; RoHS: TRUE
footprint LT-FE-16-EPV-BA_N (SOP, 16-Leads, Body 5x4.4mm, Pitch 0.65mm, Thermal Pad 2.74x2.74mm, IPC Medium Density)
footprint LT-FE-16-EPV-BA_L (SOP, 16-Leads, Body 5x4.4mm, Pitch 0.65mm, Thermal Pad 2.74x2.74mm, IPC High Density)
footprint LT-FE-16-EPV-BA_M (SOP, 16-Leads, Body 5x4.4mm, Pitch 0.65mm, Thermal Pad 2.74x2.74mm, IPC Low Density)
pins: 1 TRACK/SS1 (in) "The TRACK/SS pins are used to soft-start the two channels, to allow one channel to track the other output, or to allow both channels to track another output. For tracking, tie a resistor divider to this pin from the tracked (See Datasheet)", 2 BOOST1 "The BOOST pins are used to provide drive voltages, higher than the input voltage, to the internal NPN power switches. Tie through a diode to a 2.8V or higher supply, such as VOUT or VIN.", 3 SW1 (power) "The SW pins are the outputs of the internal power switches. Connect these pins to the inductors, catch diodes and boost capacitors.", 4 VIN1 (power) "The VIN1 pin supplies current to the LT3508 internal circuitry and to the internal power switch connected to SW1 and must be locally bypassed. VIN1 must be greater than 3.7V for channel 1 or channel 2 to operate. If VIN1 is (See Datasheet)", 5 VIN2 (power) "The VIN2 pin supplies current to the internal power switch connected to SW2 and must be locally bypassed. Connect this pin directly to VIN1 unless power for channel 2 is coming from a different source. VIN2 must be greater (See Datasheet)", 6 SW2 (power) "The SW pins are the outputs of the internal power switches. Connect these pins to the inductors, catch diodes and boost capacitors.", 7 BOOST2 "The BOOST pins are used to provide drive voltages, higher than the input voltage, to the internal NPN power switches. Tie through a diode to a 2.8V or higher supply, such as VOUT or VIN.", 8 TRACK/SS2 (in) "The TRACK/SS pins are used to soft-start the two channels, to allow one channel to track the other output, or to allow both channels to track another output. For tracking, tie a resistor divider to this pin from the tracked (See Datasheet)", 9 FB2 (in) "The LT3508 regulates each feedback pin to 0.800V. Connect the feedback resistor divider taps to these pins.", 10 VC2 "The VC pins are the outputs of the internal error amps. The voltages on these pins control the peak switch currents. These pins are normally used to compensate the control loops, but can also be used to override the loops. (See Datasheet)", 11 PG2 (oc) "The power good pins are the open-collector outputs of an internal comparator. PG remains low until the FB pin is within 10% of the final regulation voltage. As well as indicating output regulation, the PG pins can be used to (See Datasheet)", 12 ~{SHDN} (in) "The shutdown pin is used to put the LT3508 in shutdown mode. Pull the pin below 0.3V to shut down the LT3508. The 2.63V threshold can function as an accurate undervoltage lockout (UVLO), preventing the regulator from (See Datasheet)", 13 RT/SYNC (in) "The RT/SYNC pin is used to set the internal oscillator frequency. Tie a 33.2k resistor from RT/SYNC to GND for a 1MHz switching frequency. To synchronize the part to an external frequency, drive the RT/SYNC pin with a (See Datasheet)", 14 PG1 (oc) "The power good pins are the open-collector outputs of an internal comparator. PG remains low until the FB pin is within 10% of the final regulation voltage. As well as indicating output regulation, the PG pins can be used to (See Datasheet)", 15 VC1 "The VC pins are the outputs of the internal error amps. The voltages on these pins control the peak switch currents. These pins are normally used to compensate the control loops, but can also be used to override the loops. (See Datasheet)", 16 FB1 (in) "The LT3508 regulates each feedback pin to 0.800V. Connect the feedback resistor divider taps to these pins.", 17 EP (power) "The exposed pad metal of the package provides both electrical contact to ground and good thermal contact to the printed circuit board. The exposed pad must be soldered to the circuit board for proper operation."